# Altium schematic symbol library LT1721.SchLib: 1 symbol
Pins are listed as number, name and electrical type; pins without a type are passive.

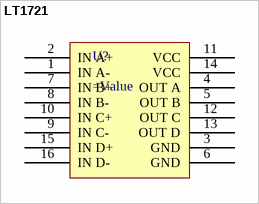
[diagram p0: symbol LT1721]

## LT1721
designator U?
pins: 1 IN A-, 2 IN A+, 3 GND, 4 OUT A, 5 OUT B, 6 GND, 7 IN B+, 8 IN B-, 9 IN C-, 10 IN C+, 11 VCC, 12 OUT C, 13 OUT D, 14 VCC, 15 IN D+, 16 IN D-